# Altium schematic symbol library CL05A105KL5NRNC.SchLib: 1 symbol
Pins are listed as number, name and electrical type; pins without a type are passive.

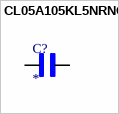
[diagram p0: symbol CL05A105KL5NRNC]

## CL05A105KL5NRNC
designator C?
1 ÂµF Â±10% 35V Ceramic Capacitor X5R 0402 (1005 Metric); MF: Samsung; MP: CL05A105KL5NRNC; SnapEDA_Link: https://www.snapeda.com/parts/CL05A105KL5NRNC/Samsung/view-part/?ref=snap; Package: SMD-2-2 Samsung; Value: *; Check_prices: https://www.snapeda.com/parts/CL05A105KL5NRNC/Samsung/view-part/?ref=eda
footprint CAPC1005X65N
pins: 1, 2